# Altium footprint library MDD5N40RH.PcbLib: 1 footprints
Each footprint in its own frame and in the unit in brackets; x right, y up, seen from the top. Pads: shape width x height; smd on the part's side, far side on the other; paste and mask are expansions set on the pad; w line width, h text height; cw(c..) or ccw(c..) is an arc to the next point about the centre after c.
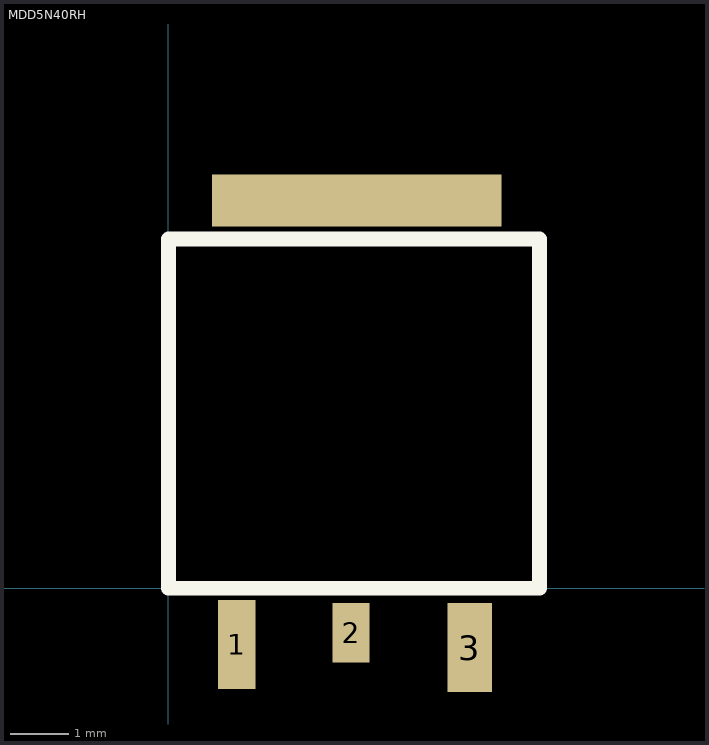
[diagram p0: the footprint, top view; thin cyan lines are the x and y axes]

## MDD5N40RH [mil]
pads (4):
  rect 25.2x60 smd: 1(46,-38)
  rect 25.2x40.16 smd: 2(123,-30)
  rect 29.92x60 smd: 3(203,-40)
  rect 194.88x35.04 smd: ""(127,261)
Top Overlay:
  lines w10: 0,0 250,0 250,235 0,235 0,0
3D body: height 39.49, standoff 0, extent 5,5 245,230